# Altium schematic symbol library spacemonochrome-WR_TBL.SchLib: 1696 symbols (part 22 of 28)
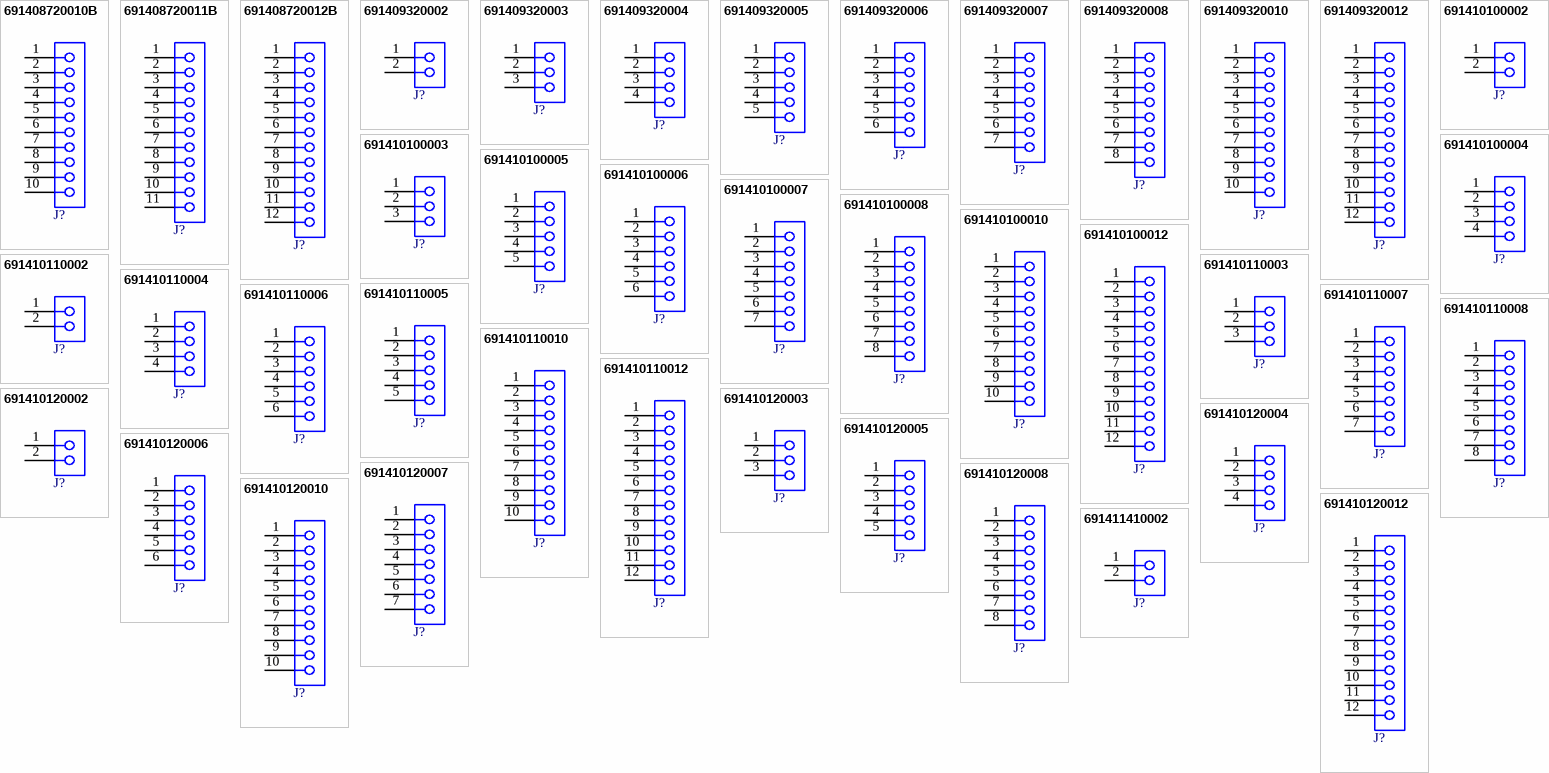
[diagram p63: symbols 691408720010B to 691411410002]

## 691410110002
designator J?  (value not drawn)
WR-TBL Series 4101 Screwless Push In Horizontal cable entry, THT, pitch 3.5mm, 2p; Manufacturer: Wurth Elektronik; Modularity: No; Manufacturer Part Number: 691410110002; Category: Terminal Blocks; Match Code: WR-TBL; ComponentLink1Description: Website Link; ComponentLink1URL: https://www.we-online.com/redexpert/article/691410110002?ad; ComponentLink2Description: Datasheet Link; ComponentLink2URL: https://www.we-online.com/redexpert/spec/691410110002?ad; Mount: Through Hole; Operating Temperature Max: 110°C; Operating Temperature Min: -40°C; Packaging: Box; Application: Screwless Push In; Number of Pins: 2; Number of Rows: 1; Orientation: Horizontal Cable Entry; Pitch: 3.5mm
footprint 691410110002
pins: 1, 2

## 691410110003
designator J?  (value not drawn)
WR-TBL Series 4101 Screwless Push In Horizontal cable entry, THT, pitch 3.5mm, 3p; Manufacturer: Wurth Elektronik; Modularity: No; Manufacturer Part Number: 691410110003; Category: Terminal Blocks; Match Code: WR-TBL; ComponentLink1Description: Website Link; ComponentLink1URL: https://www.we-online.com/redexpert/article/691410110003?ad; ComponentLink2Description: Datasheet Link; ComponentLink2URL: https://www.we-online.com/redexpert/spec/691410110003?ad; Mount: Through Hole; Operating Temperature Max: 110°C; Operating Temperature Min: -40°C; Packaging: Box; Application: Screwless Push In; Number of Pins: 3; Number of Rows: 1; Orientation: Horizontal Cable Entry; Pitch: 3.5mm
footprint 691410110003
pins: 1, 2, 3

## 691410110004
designator J?  (value not drawn)
WR-TBL Series 4101 Screwless Push In Horizontal cable entry, THT, pitch 3.5mm, 4p; Manufacturer: Wurth Elektronik; Modularity: No; Manufacturer Part Number: 691410110004; Category: Terminal Blocks; Match Code: WR-TBL; ComponentLink1Description: Website Link; ComponentLink1URL: https://www.we-online.com/redexpert/article/691410110004?ad; ComponentLink2Description: Datasheet Link; ComponentLink2URL: https://www.we-online.com/redexpert/spec/691410110004?ad; Mount: Through Hole; Operating Temperature Max: 110°C; Operating Temperature Min: -40°C; Packaging: Box; Application: Screwless Push In; Number of Pins: 4; Number of Rows: 1; Orientation: Horizontal Cable Entry; Pitch: 3.5mm
footprint 691410110004
pins: 1, 2, 3, 4

## 691410110005
designator J?  (value not drawn)
WR-TBL Series 4101 Screwless Push In Horizontal cable entry, THT, pitch 3.5mm, 5p; Manufacturer: Wurth Elektronik; Modularity: No; Manufacturer Part Number: 691410110005; Category: Terminal Blocks; Match Code: WR-TBL; ComponentLink1Description: Website Link; ComponentLink1URL: https://www.we-online.com/redexpert/article/691410110005?ad; ComponentLink2Description: Datasheet Link; ComponentLink2URL: https://www.we-online.com/redexpert/spec/691410110005?ad; Mount: Through Hole; Operating Temperature Max: 110°C; Operating Temperature Min: -40°C; Packaging: Box; Application: Screwless Push In; Number of Pins: 5; Number of Rows: 1; Orientation: Horizontal Cable Entry; Pitch: 3.5mm
footprint 691410110005
pins: 1, 2, 3, 4, 5

## 691410110006
designator J?  (value not drawn)
WR-TBL Series 4101 Screwless Push In Horizontal cable entry, THT, pitch 3.5mm, 6p; Manufacturer: Wurth Elektronik; Modularity: No; Manufacturer Part Number: 691410110006; Category: Terminal Blocks; Match Code: WR-TBL; ComponentLink1Description: Website Link; ComponentLink1URL: https://www.we-online.com/redexpert/article/691410110006?ad; ComponentLink2Description: Datasheet Link; ComponentLink2URL: https://www.we-online.com/redexpert/spec/691410110006?ad; Mount: Through Hole; Operating Temperature Max: 110°C; Operating Temperature Min: -40°C; Packaging: Box; Application: Screwless Push In; Number of Pins: 6; Number of Rows: 1; Orientation: Horizontal Cable Entry; Pitch: 3.5mm
footprint 691410110006
pins: 1, 2, 3, 4, 5, 6

## 691410110007
designator J?  (value not drawn)
WR-TBL Series 4101 Screwless Push In Horizontal cable entry, THT, pitch 3.5mm, 7p; Manufacturer: Wurth Elektronik; Modularity: No; Manufacturer Part Number: 691410110007; Category: Terminal Blocks; Match Code: WR-TBL; ComponentLink1Description: Website Link; ComponentLink1URL: https://www.we-online.com/redexpert/article/691410110007?ad; ComponentLink2Description: Datasheet Link; ComponentLink2URL: https://www.we-online.com/redexpert/spec/691410110007?ad; Mount: Through Hole; Operating Temperature Max: 110°C; Operating Temperature Min: -40°C; Packaging: Box; Application: Screwless Push In; Number of Pins: 7; Number of Rows: 1; Orientation: Horizontal Cable Entry; Pitch: 3.5mm
footprint 691410110007
pins: 1, 2, 3, 4, 5, 6, 7

## 691410110008
designator J?  (value not drawn)
WR-TBL Series 4101 Screwless Push In Horizontal cable entry, THT, pitch 3.5mm, 8p; Manufacturer: Wurth Elektronik; Modularity: No; Manufacturer Part Number: 691410110008; Category: Terminal Blocks; Match Code: WR-TBL; ComponentLink1Description: Website Link; ComponentLink1URL: https://www.we-online.com/redexpert/article/691410110008?ad; ComponentLink2Description: Datasheet Link; ComponentLink2URL: https://www.we-online.com/redexpert/spec/691410110008?ad; Mount: Through Hole; Operating Temperature Max: 110°C; Operating Temperature Min: -40°C; Packaging: Box; Application: Screwless Push In; Number of Pins: 8; Number of Rows: 1; Orientation: Horizontal Cable Entry; Pitch: 3.5mm
footprint 691410110008
pins: 1, 2, 3, 4, 5, 6, 7, 8

## 691410110010
designator J?  (value not drawn)
WR-TBL Series 4101 Screwless Push In Horizontal cable entry, THT, pitch 3.5mm, 10p; Manufacturer: Wurth Elektronik; Modularity: No; Manufacturer Part Number: 691410110010; Category: Terminal Blocks; Match Code: WR-TBL; ComponentLink1Description: Website Link; ComponentLink1URL: https://www.we-online.com/redexpert/article/691410110010?ad; ComponentLink2Description: Datasheet Link; ComponentLink2URL: https://www.we-online.com/redexpert/spec/691410110010?ad; Mount: Through Hole; Operating Temperature Max: 110°C; Operating Temperature Min: -40°C; Packaging: Box; Application: Screwless Push In; Number of Pins: 10; Number of Rows: 1; Orientation: Horizontal Cable Entry; Pitch: 3.5mm
footprint 691410110010
pins: 1, 2, 3, 4, 5, 6, 7, 8, 9, 10

## 691410110012
designator J?  (value not drawn)
WR-TBL Series 4101 Screwless Push In Horizontal cable entry, THT, pitch 3.5mm, 12p; Manufacturer: Wurth Elektronik; Modularity: No; Manufacturer Part Number: 691410110012; Category: Terminal Blocks; Match Code: WR-TBL; ComponentLink1Description: Website Link; ComponentLink1URL: https://www.we-online.com/redexpert/article/691410110012?ad; ComponentLink2Description: Datasheet Link; ComponentLink2URL: https://www.we-online.com/redexpert/spec/691410110012?ad; Mount: Through Hole; Operating Temperature Max: 110°C; Operating Temperature Min: -40°C; Packaging: Box; Application: Screwless Push In; Number of Pins: 12; Number of Rows: 1; Orientation: Horizontal Cable Entry; Pitch: 3.5mm
footprint 691410110012
pins: 1, 2, 3, 4, 5, 6, 7, 8, 9, 10, 11, 12

## 691410120002
designator J?  (value not drawn)
WR-TBL Series 4101 Screwless Push In 45° cable entry, THT, pitch 3.5mm, 2p; Manufacturer: Wurth Elektronik; Modularity: No; Manufacturer Part Number: 691410120002; Category: Terminal Blocks; Match Code: WR-TBL; ComponentLink1Description: Website Link; ComponentLink1URL: https://www.we-online.com/redexpert/article/691410120002?ad; ComponentLink2Description: Datasheet Link; ComponentLink2URL: https://www.we-online.com/redexpert/spec/691410120002?ad; Mount: Through Hole; Operating Temperature Max: 110°C; Operating Temperature Min: -40°C; Packaging: Box; Application: Screwless Push In; Number of Pins: 2; Number of Rows: 1; Orientation: 45° Cable Entry; Pitch: 3.5mm
footprint 691410120002
pins: 1, 2

## 691410120003
designator J?  (value not drawn)
WR-TBL Series 4101 Screwless Push In 45° cable entry, THT, pitch 3.5mm, 3p; Manufacturer: Wurth Elektronik; Modularity: No; Manufacturer Part Number: 691410120003; Category: Terminal Blocks; Match Code: WR-TBL; ComponentLink1Description: Website Link; ComponentLink1URL: https://www.we-online.com/redexpert/article/691410120003?ad; ComponentLink2Description: Datasheet Link; ComponentLink2URL: https://www.we-online.com/redexpert/spec/691410120003?ad; Mount: Through Hole; Operating Temperature Max: 110°C; Operating Temperature Min: -40°C; Packaging: Box; Application: Screwless Push In; Number of Pins: 3; Number of Rows: 1; Orientation: 45° Cable Entry; Pitch: 3.5mm
footprint 691410120003
pins: 1, 2, 3

## 691410120004
designator J?  (value not drawn)
WR-TBL Series 4101 Screwless Push In 45° cable entry, THT, pitch 3.5mm, 4p; Manufacturer: Wurth Elektronik; Modularity: No; Manufacturer Part Number: 691410120004; Category: Terminal Blocks; Match Code: WR-TBL; ComponentLink1Description: Website Link; ComponentLink1URL: https://www.we-online.com/redexpert/article/691410120004?ad; ComponentLink2Description: Datasheet Link; ComponentLink2URL: https://www.we-online.com/redexpert/spec/691410120004?ad; Mount: Through Hole; Operating Temperature Max: 110°C; Operating Temperature Min: -40°C; Packaging: Box; Application: Screwless Push In; Number of Pins: 4; Number of Rows: 1; Orientation: 45° Cable Entry; Pitch: 3.5mm
footprint 691410120004
pins: 1, 2, 3, 4

## 691410120005
designator J?  (value not drawn)
WR-TBL Series 4101 Screwless Push In 45° cable entry, THT, pitch 3.5mm, 5p; Manufacturer: Wurth Elektronik; Modularity: No; Manufacturer Part Number: 691410120005; Category: Terminal Blocks; Match Code: WR-TBL; ComponentLink1Description: Website Link; ComponentLink1URL: https://www.we-online.com/redexpert/article/691410120005?ad; ComponentLink2Description: Datasheet Link; ComponentLink2URL: https://www.we-online.com/redexpert/spec/691410120005?ad; Mount: Through Hole; Operating Temperature Max: 110°C; Operating Temperature Min: -40°C; Packaging: Box; Application: Screwless Push In; Number of Pins: 5; Number of Rows: 1; Orientation: 45° Cable Entry; Pitch: 3.5mm
footprint 691410120005
pins: 1, 2, 3, 4, 5

## 691410120006
designator J?  (value not drawn)
WR-TBL Series 4101 Screwless Push In 45° cable entry, THT, pitch 3.5mm, 6p; Manufacturer: Wurth Elektronik; Modularity: No; Manufacturer Part Number: 691410120006; Category: Terminal Blocks; Match Code: WR-TBL; ComponentLink1Description: Website Link; ComponentLink1URL: https://www.we-online.com/redexpert/article/691410120006?ad; ComponentLink2Description: Datasheet Link; ComponentLink2URL: https://www.we-online.com/redexpert/spec/691410120006?ad; Mount: Through Hole; Operating Temperature Max: 110°C; Operating Temperature Min: -40°C; Packaging: Box; Application: Screwless Push In; Number of Pins: 6; Number of Rows: 1; Orientation: 45° Cable Entry; Pitch: 3.5mm
footprint 691410120006
pins: 1, 2, 3, 4, 5, 6

## 691410120007
designator J?  (value not drawn)
WR-TBL Series 4101 Screwless Push In 45° cable entry, THT, pitch 3.5mm, 7p; Manufacturer: Wurth Elektronik; Modularity: No; Manufacturer Part Number: 691410120007; Category: Terminal Blocks; Match Code: WR-TBL; ComponentLink1Description: Website Link; ComponentLink1URL: https://www.we-online.com/redexpert/article/691410120007?ad; ComponentLink2Description: Datasheet Link; ComponentLink2URL: https://www.we-online.com/redexpert/spec/691410120007?ad; Mount: Through Hole; Operating Temperature Max: 110°C; Operating Temperature Min: -40°C; Packaging: Box; Application: Screwless Push In; Number of Pins: 7; Number of Rows: 1; Orientation: 45° Cable Entry; Pitch: 3.5mm
footprint 691410120007
pins: 1, 2, 3, 4, 5, 6, 7

## 691410120008
designator J?  (value not drawn)
WR-TBL Series 4101 Screwless Push In 45° cable entry, THT, pitch 3.5mm, 8p; Manufacturer: Wurth Elektronik; Modularity: No; Manufacturer Part Number: 691410120008; Category: Terminal Blocks; Match Code: WR-TBL; ComponentLink1Description: Website Link; ComponentLink1URL: https://www.we-online.com/redexpert/article/691410120008?ad; ComponentLink2Description: Datasheet Link; ComponentLink2URL: https://www.we-online.com/redexpert/spec/691410120008?ad; Mount: Through Hole; Operating Temperature Max: 110°C; Operating Temperature Min: -40°C; Packaging: Box; Application: Screwless Push In; Number of Pins: 8; Number of Rows: 1; Orientation: 45° Cable Entry; Pitch: 3.5mm
footprint 691410120008
pins: 1, 2, 3, 4, 5, 6, 7, 8

## 691410120010
designator J?  (value not drawn)
WR-TBL Series 4101 Screwless Push In 45° cable entry, THT, pitch 3.5mm, 10p; Manufacturer: Wurth Elektronik; Modularity: No; Manufacturer Part Number: 691410120010; Category: Terminal Blocks; Match Code: WR-TBL; ComponentLink1Description: Website Link; ComponentLink1URL: https://www.we-online.com/redexpert/article/691410120010?ad; ComponentLink2Description: Datasheet Link; ComponentLink2URL: https://www.we-online.com/redexpert/spec/691410120010?ad; Mount: Through Hole; Operating Temperature Max: 110°C; Operating Temperature Min: -40°C; Packaging: Box; Application: Screwless Push In; Number of Pins: 10; Number of Rows: 1; Orientation: 45° Cable Entry; Pitch: 3.5mm
footprint 691410120010
pins: 1, 2, 3, 4, 5, 6, 7, 8, 9, 10

## 691410120012
designator J?  (value not drawn)
WR-TBL Series 4101 Screwless Push In 45° cable entry, THT, pitch 3.5mm, 12p; Manufacturer: Wurth Elektronik; Modularity: No; Manufacturer Part Number: 691410120012; Category: Terminal Blocks; Match Code: WR-TBL; ComponentLink1Description: Website Link; ComponentLink1URL: https://www.we-online.com/redexpert/article/691410120012?ad; ComponentLink2Description: Datasheet Link; ComponentLink2URL: https://www.we-online.com/redexpert/spec/691410120012?ad; Mount: Through Hole; Operating Temperature Max: 110°C; Operating Temperature Min: -40°C; Packaging: Box; Application: Screwless Push In; Number of Pins: 12; Number of Rows: 1; Orientation: 45° Cable Entry; Pitch: 3.5mm
footprint 691410120012
pins: 1, 2, 3, 4, 5, 6, 7, 8, 9, 10, 11, 12

## 691411410002
designator J?  (value not drawn)
WR-TBL Series 4114 Horizontal Cable Entry, THT, pitch 7.62mm, 2p; Manufacturer: Wurth Elektronik; Modularity: No; Rated Current: 10A; Working Voltage: 300V; ComponentLink1Description: Website Link; ComponentLink1URL: https://www.we-online.com/redexpert/article/691411410002?ad; ComponentLink2Description: Datasheet Link; ComponentLink2URL: https://www.we-online.com/redexpert/spec/691411410002?ad; Manufacturer Part Number: 691411410002; Category: Terminal Blocks; Match Code: WR-TBL; Mount: Through Hole; Operating Temperature Max: 120°C; Operating Temperature Min: -30°C; Packaging: Box; Application: Screwless; Number of Pins: 2; Number of Rows: 1; Orientation: Horizontal; Pitch: 7.62mm
footprint 691411410002
pins: 1, 2

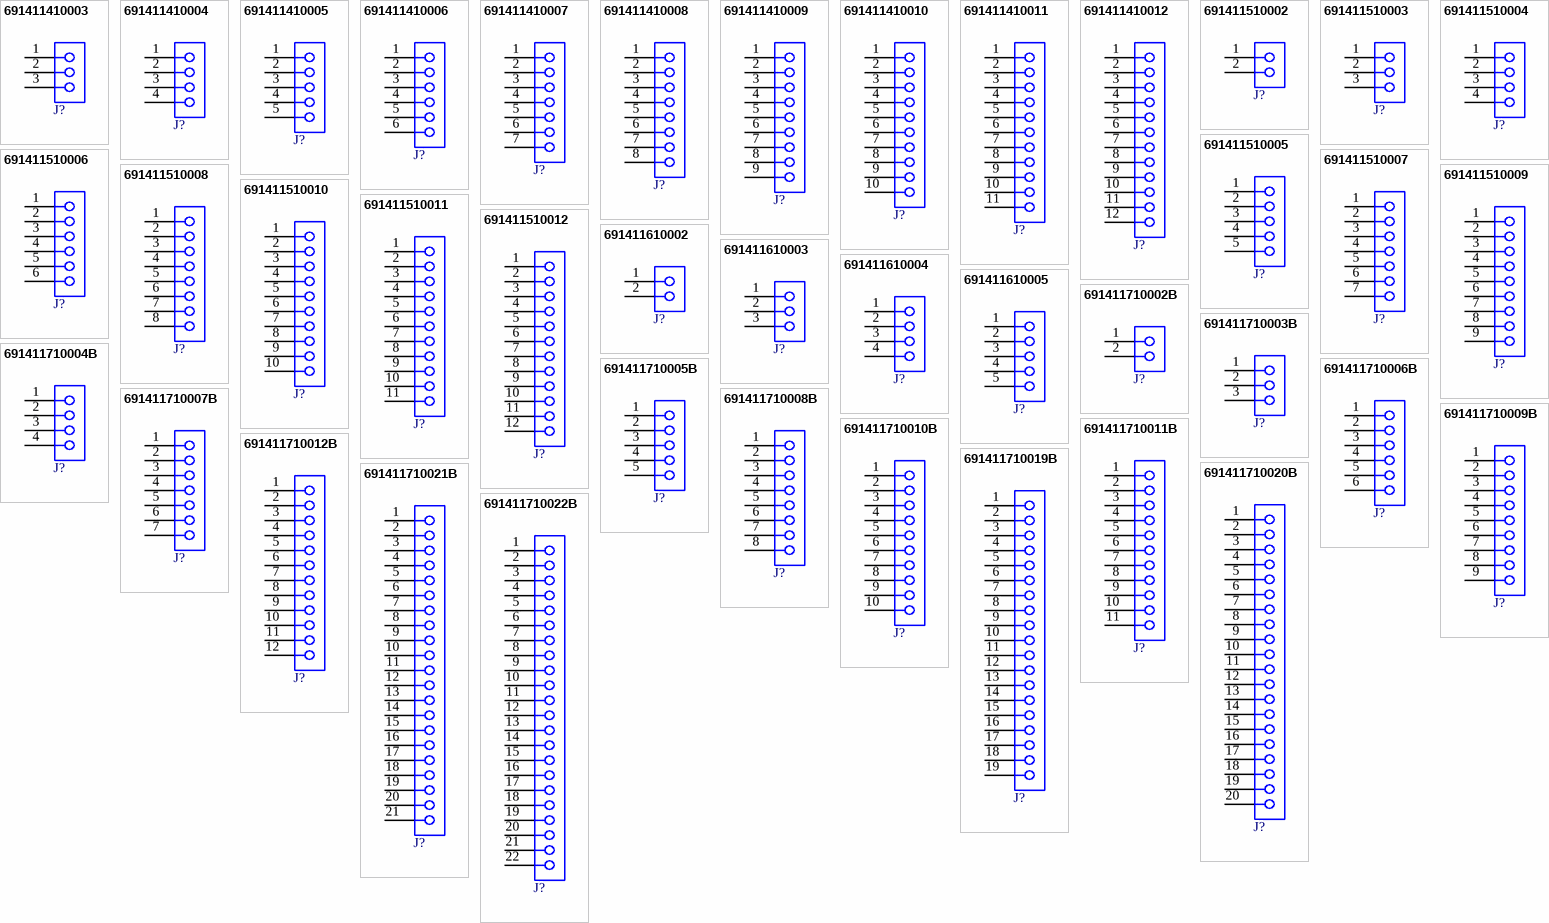
[diagram p33: symbols 691411410003 to 691411710022B]

## 691411410003
designator J?  (value not drawn)
WR-TBL Series 4114 Horizontal Cable Entry, THT, pitch 7.62mm, 3p; Manufacturer: Wurth Elektronik; Modularity: No; Rated Current: 10A; Working Voltage: 300V; ComponentLink1Description: Website Link; ComponentLink1URL: https://www.we-online.com/redexpert/article/691411410003?ad; ComponentLink2Description: Datasheet Link; ComponentLink2URL: https://www.we-online.com/redexpert/spec/691411410003?ad; Manufacturer Part Number: 691411410003; Category: Terminal Blocks; Match Code: WR-TBL; Mount: Through Hole; Operating Temperature Max: 120°C; Operating Temperature Min: -30°C; Packaging: Box; Application: Screwless; Number of Pins: 3; Number of Rows: 1; Orientation: Horizontal; Pitch: 7.62mm
footprint 691411410003
pins: 1, 2, 3

## 691411410004
designator J?  (value not drawn)
WR-TBL Series 4114 Horizontal Cable Entry, THT, pitch 7.62mm, 4p; Manufacturer: Wurth Elektronik; Modularity: No; Rated Current: 10A; Working Voltage: 300V; ComponentLink1Description: Website Link; ComponentLink1URL: https://www.we-online.com/redexpert/article/691411410004?ad; ComponentLink2Description: Datasheet Link; ComponentLink2URL: https://www.we-online.com/redexpert/spec/691411410004?ad; Manufacturer Part Number: 691411410004; Category: Terminal Blocks; Match Code: WR-TBL; Mount: Through Hole; Operating Temperature Max: 120°C; Operating Temperature Min: -30°C; Packaging: Box; Application: Screwless; Number of Pins: 4; Number of Rows: 1; Orientation: Horizontal; Pitch: 7.62mm
footprint 691411410004
pins: 1, 2, 3, 4

## 691411410005
designator J?  (value not drawn)
WR-TBL Series 4114 Horizontal Cable Entry, THT, pitch 7.62mm, 5p; Manufacturer: Wurth Elektronik; Modularity: No; Rated Current: 10A; Working Voltage: 300V; ComponentLink1Description: Website Link; ComponentLink1URL: https://www.we-online.com/redexpert/article/691411410005?ad; ComponentLink2Description: Datasheet Link; ComponentLink2URL: https://www.we-online.com/redexpert/spec/691411410005?ad; Manufacturer Part Number: 691411410005; Category: Terminal Blocks; Match Code: WR-TBL; Mount: Through Hole; Operating Temperature Max: 120°C; Operating Temperature Min: -30°C; Packaging: Box; Application: Screwless; Number of Pins: 5; Number of Rows: 1; Orientation: Horizontal; Pitch: 7.62mm
footprint 691411410005
pins: 1, 2, 3, 4, 5

## 691411410006
designator J?  (value not drawn)
WR-TBL Series 4114 Horizontal Cable Entry, THT, pitch 7.62mm, 6p; Manufacturer: Wurth Elektronik; Modularity: No; Rated Current: 10A; Working Voltage: 300V; ComponentLink1Description: Website Link; ComponentLink1URL: https://www.we-online.com/redexpert/article/691411410006?ad; ComponentLink2Description: Datasheet Link; ComponentLink2URL: https://www.we-online.com/redexpert/spec/691411410006?ad; Manufacturer Part Number: 691411410006; Category: Terminal Blocks; Match Code: WR-TBL; Mount: Through Hole; Operating Temperature Max: 120°C; Operating Temperature Min: -30°C; Packaging: Box; Application: Screwless; Number of Pins: 6; Number of Rows: 1; Orientation: Horizontal; Pitch: 7.62mm
footprint 691411410006
pins: 1, 2, 3, 4, 5, 6

## 691411410007
designator J?  (value not drawn)
WR-TBL Series 4114 Horizontal Cable Entry, THT, pitch 7.62mm, 7p; Manufacturer: Wurth Elektronik; Modularity: No; Rated Current: 10A; Working Voltage: 300V; ComponentLink1Description: Website Link; ComponentLink1URL: https://www.we-online.com/redexpert/article/691411410007?ad; ComponentLink2Description: Datasheet Link; ComponentLink2URL: https://www.we-online.com/redexpert/spec/691411410007?ad; Manufacturer Part Number: 691411410007; Category: Terminal Blocks; Match Code: WR-TBL; Mount: Through Hole; Operating Temperature Max: 120°C; Operating Temperature Min: -30°C; Packaging: Box; Application: Screwless; Number of Pins: 7; Number of Rows: 1; Orientation: Horizontal; Pitch: 7.62mm
footprint 691411410007
pins: 1, 2, 3, 4, 5, 6, 7

## 691411410008
designator J?  (value not drawn)
WR-TBL Series 4114 Horizontal Cable Entry, THT, pitch 7.62mm, 8p; Manufacturer: Wurth Elektronik; Modularity: No; Rated Current: 10A; Working Voltage: 300V; ComponentLink1Description: Website Link; ComponentLink1URL: https://www.we-online.com/redexpert/article/691411410008?ad; ComponentLink2Description: Datasheet Link; ComponentLink2URL: https://www.we-online.com/redexpert/spec/691411410008?ad; Manufacturer Part Number: 691411410008; Category: Terminal Blocks; Match Code: WR-TBL; Mount: Through Hole; Operating Temperature Max: 120°C; Operating Temperature Min: -30°C; Packaging: Box; Application: Screwless; Number of Pins: 8; Number of Rows: 1; Orientation: Horizontal; Pitch: 7.62mm
footprint 691411410008
pins: 1, 2, 3, 4, 5, 6, 7, 8

## 691411410009
designator J?  (value not drawn)
WR-TBL Series 4114 Horizontal Cable Entry, THT, pitch 7.62mm, 9p; Manufacturer: Wurth Elektronik; Modularity: No; Rated Current: 10A; Working Voltage: 300V; ComponentLink1Description: Website Link; ComponentLink1URL: https://www.we-online.com/redexpert/article/691411410009?ad; ComponentLink2Description: Datasheet Link; ComponentLink2URL: https://www.we-online.com/redexpert/spec/691411410009?ad; Manufacturer Part Number: 691411410009; Category: Terminal Blocks; Match Code: WR-TBL; Mount: Through Hole; Operating Temperature Max: 120°C; Operating Temperature Min: -30°C; Packaging: Box; Application: Screwless; Number of Pins: 9; Number of Rows: 1; Orientation: Horizontal; Pitch: 7.62mm
footprint 691411410009
pins: 1, 2, 3, 4, 5, 6, 7, 8, 9

## 691411410010
designator J?  (value not drawn)
WR-TBL Series 4114 Horizontal Cable Entry, THT, pitch 7.62mm, 10p; Manufacturer: Wurth Elektronik; Modularity: No; Rated Current: 10A; Working Voltage: 300V; ComponentLink1Description: Website Link; ComponentLink1URL: https://www.we-online.com/redexpert/article/691411410010?ad; ComponentLink2Description: Datasheet Link; ComponentLink2URL: https://www.we-online.com/redexpert/spec/691411410010?ad; Manufacturer Part Number: 691411410010; Category: Terminal Blocks; Match Code: WR-TBL; Mount: Through Hole; Operating Temperature Max: 120°C; Operating Temperature Min: -30°C; Packaging: Box; Application: Screwless; Number of Pins: 10; Number of Rows: 1; Orientation: Horizontal; Pitch: 7.62mm
footprint 691411410010
pins: 1, 2, 3, 4, 5, 6, 7, 8, 9, 10

## 691411410011
designator J?  (value not drawn)
WR-TBL Series 4114 Horizontal Cable Entry, THT, pitch 7.62mm, 11p; Manufacturer: Wurth Elektronik; Modularity: No; Rated Current: 10A; Working Voltage: 300V; ComponentLink1Description: Website Link; ComponentLink1URL: https://www.we-online.com/redexpert/article/691411410011?ad; ComponentLink2Description: Datasheet Link; ComponentLink2URL: https://www.we-online.com/redexpert/spec/691411410011?ad; Manufacturer Part Number: 691411410011; Category: Terminal Blocks; Match Code: WR-TBL; Mount: Through Hole; Operating Temperature Max: 120°C; Operating Temperature Min: -30°C; Packaging: Box; Application: Screwless; Number of Pins: 11; Number of Rows: 1; Orientation: Horizontal; Pitch: 7.62mm
footprint 691411410011
pins: 1, 2, 3, 4, 5, 6, 7, 8, 9, 10, 11

## 691411410012
designator J?  (value not drawn)
WR-TBL Series 4114 Horizontal Cable Entry, THT, pitch 7.62mm, 12p; Manufacturer: Wurth Elektronik; Modularity: No; Rated Current: 10A; Working Voltage: 300V; ComponentLink1Description: Website Link; ComponentLink1URL: https://www.we-online.com/redexpert/article/691411410012?ad; ComponentLink2Description: Datasheet Link; ComponentLink2URL: https://www.we-online.com/redexpert/spec/691411410012?ad; Manufacturer Part Number: 691411410012; Category: Terminal Blocks; Match Code: WR-TBL; Mount: Through Hole; Operating Temperature Max: 120°C; Operating Temperature Min: -30°C; Packaging: Box; Application: Screwless; Number of Pins: 12; Number of Rows: 1; Orientation: Horizontal; Pitch: 7.62mm
footprint 691411410012
pins: 1, 2, 3, 4, 5, 6, 7, 8, 9, 10, 11, 12

## 691411510002
designator J?  (value not drawn)
WR-TBL Series 4115 Horizontal Entry, THT, pitch 5.08mm, 2p; Manufacturer: Wurth Elektronik; Modularity: No; Rated Current: 10A; Working Voltage: 300V; ComponentLink1Description: Website Link; ComponentLink1URL: https://www.we-online.com/redexpert/article/691411510002?ad; ComponentLink2Description: Datasheet Link; ComponentLink2URL: https://www.we-online.com/redexpert/spec/691411510002?ad; Manufacturer Part Number: 691411510002; Category: Terminal Blocks; Match Code: WR-TBL; Mount: Through Hole; Operating Temperature Max: 120°C; Operating Temperature Min: -30°C; Packaging: Box; Application: Screwless; Number of Pins: 2; Number of Rows: 1; Orientation: Horizontal; Pitch: 5.08mm
footprint 691411510002
pins: 1, 2

## 691411510003
designator J?  (value not drawn)
WR-TBL Series 4115 Horizontal Entry, THT, pitch 5.08mm, 3p; Manufacturer: Wurth Elektronik; Modularity: No; Rated Current: 10A; Working Voltage: 300V; ComponentLink1Description: Website Link; ComponentLink1URL: https://www.we-online.com/redexpert/article/691411510003?ad; ComponentLink2Description: Datasheet Link; ComponentLink2URL: https://www.we-online.com/redexpert/spec/691411510003?ad; Manufacturer Part Number: 691411510003; Category: Terminal Blocks; Match Code: WR-TBL; Mount: Through Hole; Operating Temperature Max: 120°C; Operating Temperature Min: -30°C; Packaging: Box; Application: Screwless; Number of Pins: 3; Number of Rows: 1; Orientation: Horizontal; Pitch: 5.08mm
footprint 691411510003
pins: 1, 2, 3

## 691411510004
designator J?  (value not drawn)
WR-TBL Series 4115 Horizontal Entry, THT, pitch 5.08mm, 4p; Manufacturer: Wurth Elektronik; Modularity: No; Rated Current: 10A; Working Voltage: 300V; ComponentLink1Description: Website Link; ComponentLink1URL: https://www.we-online.com/redexpert/article/691411510004?ad; ComponentLink2Description: Datasheet Link; ComponentLink2URL: https://www.we-online.com/redexpert/spec/691411510004?ad; Manufacturer Part Number: 691411510004; Category: Terminal Blocks; Match Code: WR-TBL; Mount: Through Hole; Operating Temperature Max: 120°C; Operating Temperature Min: -30°C; Packaging: Box; Application: Screwless; Number of Pins: 4; Number of Rows: 1; Orientation: Horizontal; Pitch: 5.08mm
footprint 691411510004
pins: 1, 2, 3, 4

## 691411510005
designator J?  (value not drawn)
WR-TBL Series 4115 Horizontal Entry, THT, pitch 5.08mm, 5p; Manufacturer: Wurth Elektronik; Modularity: No; Rated Current: 10A; Working Voltage: 300V; ComponentLink1Description: Website Link; ComponentLink1URL: https://www.we-online.com/redexpert/article/691411510005?ad; ComponentLink2Description: Datasheet Link; ComponentLink2URL: https://www.we-online.com/redexpert/spec/691411510005?ad; Manufacturer Part Number: 691411510005; Category: Terminal Blocks; Match Code: WR-TBL; Mount: Through Hole; Operating Temperature Max: 120°C; Operating Temperature Min: -30°C; Packaging: Box; Application: Screwless; Number of Pins: 5; Number of Rows: 1; Orientation: Horizontal; Pitch: 5.08mm
footprint 691411510005
pins: 1, 2, 3, 4, 5

## 691411510006
designator J?  (value not drawn)
WR-TBL Series 4115 Horizontal Entry, THT, pitch 5.08mm, 6p; Manufacturer: Wurth Elektronik; Modularity: No; Rated Current: 10A; Working Voltage: 300V; ComponentLink1Description: Website Link; ComponentLink1URL: https://www.we-online.com/redexpert/article/691411510006?ad; ComponentLink2Description: Datasheet Link; ComponentLink2URL: https://www.we-online.com/redexpert/spec/691411510006?ad; Manufacturer Part Number: 691411510006; Category: Terminal Blocks; Match Code: WR-TBL; Mount: Through Hole; Operating Temperature Max: 120°C; Operating Temperature Min: -30°C; Packaging: Box; Application: Screwless; Number of Pins: 6; Number of Rows: 1; Orientation: Horizontal; Pitch: 5.08mm
footprint 691411510006
pins: 1, 2, 3, 4, 5, 6

## 691411510007
designator J?  (value not drawn)
WR-TBL Series 4115 Horizontal Entry, THT, pitch 5.08mm, 7p; Manufacturer: Wurth Elektronik; Modularity: No; Rated Current: 10A; Working Voltage: 300V; ComponentLink1Description: Website Link; ComponentLink1URL: https://www.we-online.com/redexpert/article/691411510007?ad; ComponentLink2Description: Datasheet Link; ComponentLink2URL: https://www.we-online.com/redexpert/spec/691411510007?ad; Manufacturer Part Number: 691411510007; Category: Terminal Blocks; Match Code: WR-TBL; Mount: Through Hole; Operating Temperature Max: 120°C; Operating Temperature Min: -30°C; Packaging: Box; Application: Screwless; Number of Pins: 7; Number of Rows: 1; Orientation: Horizontal; Pitch: 5.08mm
footprint 691411510007
pins: 1, 2, 3, 4, 5, 6, 7

## 691411510008
designator J?  (value not drawn)
WR-TBL Series 4115 Horizontal Entry, THT, pitch 5.08mm, 8p; Manufacturer: Wurth Elektronik; Modularity: No; Rated Current: 10A; Working Voltage: 300V; ComponentLink1Description: Website Link; ComponentLink1URL: https://www.we-online.com/redexpert/article/691411510008?ad; ComponentLink2Description: Datasheet Link; ComponentLink2URL: https://www.we-online.com/redexpert/spec/691411510008?ad; Manufacturer Part Number: 691411510008; Category: Terminal Blocks; Match Code: WR-TBL; Mount: Through Hole; Operating Temperature Max: 120°C; Operating Temperature Min: -30°C; Packaging: Box; Application: Screwless; Number of Pins: 8; Number of Rows: 1; Orientation: Horizontal; Pitch: 5.08mm
footprint 691411510008
pins: 1, 2, 3, 4, 5, 6, 7, 8

## 691411510009
designator J?  (value not drawn)
WR-TBL Series 4115 Horizontal Entry, THT, pitch 5.08mm, 9p; Manufacturer: Wurth Elektronik; Modularity: No; Rated Current: 10A; Working Voltage: 300V; ComponentLink1Description: Website Link; ComponentLink1URL: https://www.we-online.com/redexpert/article/691411510009?ad; ComponentLink2Description: Datasheet Link; ComponentLink2URL: https://www.we-online.com/redexpert/spec/691411510009?ad; Manufacturer Part Number: 691411510009; Category: Terminal Blocks; Match Code: WR-TBL; Mount: Through Hole; Operating Temperature Max: 120°C; Operating Temperature Min: -30°C; Packaging: Box; Application: Screwless; Number of Pins: 9; Number of Rows: 1; Orientation: Horizontal; Pitch: 5.08mm
footprint 691411510009
pins: 1, 2, 3, 4, 5, 6, 7, 8, 9

## 691411510010
designator J?  (value not drawn)
WR-TBL Series 4115 Horizontal Entry, THT, pitch 5.08mm, 10p; Manufacturer: Wurth Elektronik; Modularity: No; Rated Current: 10A; Working Voltage: 300V; ComponentLink1Description: Website Link; ComponentLink1URL: https://www.we-online.com/redexpert/article/691411510010?ad; ComponentLink2Description: Datasheet Link; ComponentLink2URL: https://www.we-online.com/redexpert/spec/691411510010?ad; Manufacturer Part Number: 691411510010; Category: Terminal Blocks; Match Code: WR-TBL; Mount: Through Hole; Operating Temperature Max: 120°C; Operating Temperature Min: -30°C; Packaging: Box; Application: Screwless; Number of Pins: 10; Number of Rows: 1; Orientation: Horizontal; Pitch: 5.08mm
footprint 691411510010
pins: 1, 2, 3, 4, 5, 6, 7, 8, 9, 10

## 691411510011
designator J?  (value not drawn)
WR-TBL Series 4115 Horizontal Entry, THT, pitch 5.08mm, 11p; Manufacturer: Wurth Elektronik; Modularity: No; Rated Current: 10A; Working Voltage: 300V; ComponentLink1Description: Website Link; ComponentLink1URL: https://www.we-online.com/redexpert/article/691411510011?ad; ComponentLink2Description: Datasheet Link; ComponentLink2URL: https://www.we-online.com/redexpert/spec/691411510011?ad; Manufacturer Part Number: 691411510011; Category: Terminal Blocks; Match Code: WR-TBL; Mount: Through Hole; Operating Temperature Max: 120°C; Operating Temperature Min: -30°C; Packaging: Box; Application: Screwless; Number of Pins: 11; Number of Rows: 1; Orientation: Horizontal; Pitch: 5.08mm
footprint 691411510011
pins: 1, 2, 3, 4, 5, 6, 7, 8, 9, 10, 11

## 691411510012
designator J?  (value not drawn)
WR-TBL Series 4115 Horizontal Entry, THT, pitch 5.08mm, 12p; Manufacturer: Wurth Elektronik; Modularity: No; Rated Current: 10A; Working Voltage: 300V; ComponentLink1Description: Website Link; ComponentLink1URL: https://www.we-online.com/redexpert/article/691411510012?ad; ComponentLink2Description: Datasheet Link; ComponentLink2URL: https://www.we-online.com/redexpert/spec/691411510012?ad; Manufacturer Part Number: 691411510012; Category: Terminal Blocks; Match Code: WR-TBL; Mount: Through Hole; Operating Temperature Max: 120°C; Operating Temperature Min: -30°C; Packaging: Box; Application: Screwless; Number of Pins: 12; Number of Rows: 1; Orientation: Horizontal; Pitch: 5.08mm
footprint 691411510012
pins: 1, 2, 3, 4, 5, 6, 7, 8, 9, 10, 11, 12

## 691411610002
designator J?  (value not drawn)
WR-TBL Series 4116 Horizontal Entry, THT, pitch 10.16mm, 2p; Manufacturer: Wurth Elektronik; Modularity: No; Rated Current: 10A; Working Voltage: 300V; ComponentLink1Description: Website Link; ComponentLink1URL: https://www.we-online.com/redexpert/article/691411610002?ad; ComponentLink2Description: Datasheet Link; ComponentLink2URL: https://www.we-online.com/redexpert/spec/691411610002?ad; Manufacturer Part Number: 691411610002; Category: Terminal Blocks; Match Code: WR-TBL; Mount: Through Hole; Operating Temperature Max: 120°C; Operating Temperature Min: -30°C; Packaging: Box; Application: Screwless; Number of Pins: 2; Number of Rows: 1; Orientation: Horizontal; Pitch: 10.16mm
footprint 691411610002
pins: 1, 2

## 691411610003
designator J?  (value not drawn)
WR-TBL Series 4116 Horizontal Entry, THT, pitch 10.16mm, 3p; Manufacturer: Wurth Elektronik; Modularity: No; Rated Current: 10A; Working Voltage: 300V; ComponentLink1Description: Website Link; ComponentLink1URL: https://www.we-online.com/redexpert/article/691411610003?ad; ComponentLink2Description: Datasheet Link; ComponentLink2URL: https://www.we-online.com/redexpert/spec/691411610003?ad; Manufacturer Part Number: 691411610003; Category: Terminal Blocks; Match Code: WR-TBL; Mount: Through Hole; Operating Temperature Max: 120°C; Operating Temperature Min: -30°C; Packaging: Box; Application: Screwless; Number of Pins: 3; Number of Rows: 1; Orientation: Horizontal; Pitch: 10.16mm
footprint 691411610003
pins: 1, 2, 3

## 691411610004
designator J?  (value not drawn)
WR-TBL Series 4116 Horizontal Entry, THT, pitch 10.16mm, 4p; Manufacturer: Wurth Elektronik; Modularity: No; Rated Current: 10A; Working Voltage: 300V; ComponentLink1Description: Website Link; ComponentLink1URL: https://www.we-online.com/redexpert/article/691411610004?ad; ComponentLink2Description: Datasheet Link; ComponentLink2URL: https://www.we-online.com/redexpert/spec/691411610004?ad; Manufacturer Part Number: 691411610004; Category: Terminal Blocks; Match Code: WR-TBL; Mount: Through Hole; Operating Temperature Max: 120°C; Operating Temperature Min: -30°C; Packaging: Box; Application: Screwless; Number of Pins: 4; Number of Rows: 1; Orientation: Horizontal; Pitch: 10.16mm
footprint 691411610004
pins: 1, 2, 3, 4

## 691411610005
designator J?  (value not drawn)
WR-TBL Series 4116 Horizontal Entry, THT, pitch 10.16mm, 5p; Manufacturer: Wurth Elektronik; Modularity: No; Rated Current: 10A; Working Voltage: 300V; ComponentLink1Description: Website Link; ComponentLink1URL: https://www.we-online.com/redexpert/article/691411610005?ad; ComponentLink2Description: Datasheet Link; ComponentLink2URL: https://www.we-online.com/redexpert/spec/691411610005?ad; Manufacturer Part Number: 691411610005; Category: Terminal Blocks; Match Code: WR-TBL; Mount: Through Hole; Operating Temperature Max: 120°C; Operating Temperature Min: -30°C; Packaging: Box; Application: Screwless; Number of Pins: 5; Number of Rows: 1; Orientation: Horizontal; Pitch: 10.16mm
footprint 691411610005
pins: 1, 2, 3, 4, 5

## 691411710002B
designator J?  (value not drawn)
WR-TBL Series 411B Horizontal Entry, THT, pitch 5mm, 2p; Manufacturer: Wurth Elektronik; Modularity: No; Rated Current: 10A; Working Voltage: 300V; ComponentLink1Description: Website Link; ComponentLink1URL: https://www.we-online.com/redexpert/article/691411710002B?ad; ComponentLink2Description: Datasheet Link; ComponentLink2URL: https://www.we-online.com/redexpert/spec/691411710002B?ad; Manufacturer Part Number: 691411710002B; Category: Terminal Blocks; Match Code: WR-TBL; Mount: Through Hole; Operating Temperature Max: 105°C; Operating Temperature Min: -40°C; Packaging: Box; Application: Screwless; Number of Pins: 2; Number of Rows: 1; Orientation: Horizontal; Pitch: 5mm
footprint 691411710002B
pins: 1, 2

## 691411710003B
designator J?  (value not drawn)
WR-TBL Series 411B Horizontal Entry, THT, pitch 5mm, 3p; Manufacturer: Wurth Elektronik; Modularity: No; Rated Current: 10A; Working Voltage: 300V; ComponentLink1Description: Website Link; ComponentLink1URL: https://www.we-online.com/redexpert/article/691411710003B?ad; ComponentLink2Description: Datasheet Link; ComponentLink2URL: https://www.we-online.com/redexpert/spec/691411710003B?ad; Manufacturer Part Number: 691411710003B; Category: Terminal Blocks; Match Code: WR-TBL; Mount: Through Hole; Operating Temperature Max: 105°C; Operating Temperature Min: -40°C; Packaging: Box; Application: Screwless; Number of Pins: 3; Number of Rows: 1; Orientation: Horizontal; Pitch: 5mm
footprint 691411710003B
pins: 1, 2, 3

## 691411710004B
designator J?  (value not drawn)
WR-TBL Series 411B Horizontal Entry, THT, pitch 5mm, 4p; Manufacturer: Wurth Elektronik; Modularity: No; Rated Current: 10A; Working Voltage: 300V; ComponentLink1Description: Website Link; ComponentLink1URL: https://www.we-online.com/redexpert/article/691411710004B?ad; ComponentLink2Description: Datasheet Link; ComponentLink2URL: https://www.we-online.com/redexpert/spec/691411710004B?ad; Manufacturer Part Number: 691411710004B; Category: Terminal Blocks; Match Code: WR-TBL; Mount: Through Hole; Operating Temperature Max: 105°C; Operating Temperature Min: -40°C; Packaging: Box; Application: Screwless; Number of Pins: 4; Number of Rows: 1; Orientation: Horizontal; Pitch: 5mm
footprint 691411710004B
pins: 1, 2, 3, 4

## 691411710005B
designator J?  (value not drawn)
WR-TBL Series 411B Horizontal Entry, THT, pitch 5mm, 5p; Manufacturer: Wurth Elektronik; Modularity: No; Rated Current: 10A; Working Voltage: 300V; ComponentLink1Description: Website Link; ComponentLink1URL: https://www.we-online.com/redexpert/article/691411710005B?ad; ComponentLink2Description: Datasheet Link; ComponentLink2URL: https://www.we-online.com/redexpert/spec/691411710005B?ad; Manufacturer Part Number: 691411710005B; Category: Terminal Blocks; Match Code: WR-TBL; Mount: Through Hole; Operating Temperature Max: 105°C; Operating Temperature Min: -40°C; Packaging: Box; Application: Screwless; Number of Pins: 5; Number of Rows: 1; Orientation: Horizontal; Pitch: 5mm
footprint 691411710005B
pins: 1, 2, 3, 4, 5

## 691411710006B
designator J?  (value not drawn)
WR-TBL Series 411B Horizontal Entry, THT, pitch 5mm, 6p; Manufacturer: Wurth Elektronik; Modularity: No; Rated Current: 10A; Working Voltage: 300V; ComponentLink1Description: Website Link; ComponentLink1URL: https://www.we-online.com/redexpert/article/691411710006B?ad; ComponentLink2Description: Datasheet Link; ComponentLink2URL: https://www.we-online.com/redexpert/spec/691411710006B?ad; Manufacturer Part Number: 691411710006B; Category: Terminal Blocks; Match Code: WR-TBL; Mount: Through Hole; Operating Temperature Max: 105°C; Operating Temperature Min: -40°C; Packaging: Box; Application: Screwless; Number of Pins: 6; Number of Rows: 1; Orientation: Horizontal; Pitch: 5mm
footprint 691411710006B
pins: 1, 2, 3, 4, 5, 6

## 691411710007B
designator J?  (value not drawn)
WR-TBL Series 411B Horizontal Entry, THT, pitch 5mm, 7p; Manufacturer: Wurth Elektronik; Modularity: No; Rated Current: 10A; Working Voltage: 300V; ComponentLink1Description: Website Link; ComponentLink1URL: https://www.we-online.com/redexpert/article/691411710007B?ad; ComponentLink2Description: Datasheet Link; ComponentLink2URL: https://www.we-online.com/redexpert/spec/691411710007B?ad; Manufacturer Part Number: 691411710007B; Category: Terminal Blocks; Match Code: WR-TBL; Mount: Through Hole; Operating Temperature Max: 105°C; Operating Temperature Min: -40°C; Packaging: Box; Application: Screwless; Number of Pins: 7; Number of Rows: 1; Orientation: Horizontal; Pitch: 5mm
footprint 691411710007B
pins: 1, 2, 3, 4, 5, 6, 7

## 691411710008B
designator J?  (value not drawn)
WR-TBL Series 411B Horizontal Entry, THT, pitch 5mm, 8p; Manufacturer: Wurth Elektronik; Modularity: No; Rated Current: 10A; Working Voltage: 300V; ComponentLink1Description: Website Link; ComponentLink1URL: https://www.we-online.com/redexpert/article/691411710008B?ad; ComponentLink2Description: Datasheet Link; ComponentLink2URL: https://www.we-online.com/redexpert/spec/691411710008B?ad; Manufacturer Part Number: 691411710008B; Category: Terminal Blocks; Match Code: WR-TBL; Mount: Through Hole; Operating Temperature Max: 105°C; Operating Temperature Min: -40°C; Packaging: Box; Application: Screwless; Number of Pins: 8; Number of Rows: 1; Orientation: Horizontal; Pitch: 5mm
footprint 691411710008B
pins: 1, 2, 3, 4, 5, 6, 7, 8

## 691411710009B
designator J?  (value not drawn)
WR-TBL Series 411B Horizontal Entry, THT, pitch 5mm, 9p; Manufacturer: Wurth Elektronik; Modularity: No; Rated Current: 10A; Working Voltage: 300V; ComponentLink1Description: Website Link; ComponentLink1URL: https://www.we-online.com/redexpert/article/691411710009B?ad; ComponentLink2Description: Datasheet Link; ComponentLink2URL: https://www.we-online.com/redexpert/spec/691411710009B?ad; Manufacturer Part Number: 691411710009B; Category: Terminal Blocks; Match Code: WR-TBL; Mount: Through Hole; Operating Temperature Max: 105°C; Operating Temperature Min: -40°C; Packaging: Box; Application: Screwless; Number of Pins: 9; Number of Rows: 1; Orientation: Horizontal; Pitch: 5mm
footprint 691411710009B
pins: 1, 2, 3, 4, 5, 6, 7, 8, 9

## 691411710010B
designator J?  (value not drawn)
WR-TBL Series 411B Horizontal Entry, THT, pitch 5mm, 10p; Manufacturer: Wurth Elektronik; Modularity: No; Rated Current: 10A; Working Voltage: 300V; ComponentLink1Description: Website Link; ComponentLink1URL: https://www.we-online.com/redexpert/article/691411710010B?ad; ComponentLink2Description: Datasheet Link; ComponentLink2URL: https://www.we-online.com/redexpert/spec/691411710010B?ad; Manufacturer Part Number: 691411710010B; Category: Terminal Blocks; Match Code: WR-TBL; Mount: Through Hole; Operating Temperature Max: 105°C; Operating Temperature Min: -40°C; Packaging: Box; Application: Screwless; Number of Pins: 10; Number of Rows: 1; Orientation: Horizontal; Pitch: 5mm
footprint 691411710010B
pins: 1, 2, 3, 4, 5, 6, 7, 8, 9, 10

## 691411710011B
designator J?  (value not drawn)
WR-TBL Series 411B Horizontal Entry, THT, pitch 5mm, 11p; Manufacturer: Wurth Elektronik; Modularity: No; Rated Current: 10A; Working Voltage: 300V; ComponentLink1Description: Website Link; ComponentLink1URL: https://www.we-online.com/redexpert/article/691411710011B?ad; ComponentLink2Description: Datasheet Link; ComponentLink2URL: https://www.we-online.com/redexpert/spec/691411710011B?ad; Manufacturer Part Number: 691411710011B; Category: Terminal Blocks; Match Code: WR-TBL; Mount: Through Hole; Operating Temperature Max: 105°C; Operating Temperature Min: -40°C; Packaging: Box; Application: Screwless; Number of Pins: 11; Number of Rows: 1; Orientation: Horizontal; Pitch: 5mm
footprint 691411710011B
pins: 1, 2, 3, 4, 5, 6, 7, 8, 9, 10, 11

## 691411710012B
designator J?  (value not drawn)
WR-TBL Series 411B Horizontal Entry, THT, pitch 5mm, 12p; Manufacturer: Wurth Elektronik; Modularity: No; Rated Current: 10A; Working Voltage: 300V; ComponentLink1Description: Website Link; ComponentLink1URL: https://www.we-online.com/redexpert/article/691411710012B?ad; ComponentLink2Description: Datasheet Link; ComponentLink2URL: https://www.we-online.com/redexpert/spec/691411710012B?ad; Manufacturer Part Number: 691411710012B; Category: Terminal Blocks; Match Code: WR-TBL; Mount: Through Hole; Operating Temperature Max: 105°C; Operating Temperature Min: -40°C; Packaging: Box; Application: Screwless; Number of Pins: 12; Number of Rows: 1; Orientation: Horizontal; Pitch: 5mm
footprint 691411710012B
pins: 1, 2, 3, 4, 5, 6, 7, 8, 9, 10, 11, 12

## 691411710019B
designator J?  (value not drawn)
WR-TBL Series 411B Horizontal Entry, THT, pitch 5mm, 19p; Manufacturer: Wurth Elektronik; Modularity: No; Rated Current: 10A; Working Voltage: 300V; ComponentLink1Description: Website Link; ComponentLink1URL: https://www.we-online.com/redexpert/article/691411710019B?ad; ComponentLink2Description: Datasheet Link; ComponentLink2URL: https://www.we-online.com/redexpert/spec/691411710019B?ad; Manufacturer Part Number: 691411710019B; Category: Terminal Blocks; Match Code: WR-TBL; Mount: Through Hole; Operating Temperature Max: 105°C; Operating Temperature Min: -40°C; Packaging: Box; Application: Screwless; Number of Pins: 19; Number of Rows: 1; Orientation: Horizontal; Pitch: 5mm
footprint 691411710019B
pins: 1, 2, 3, 4, 5, 6, 7, 8, 9, 10, 11, 12, 13, 14, 15, 16, 17, 18, 19

## 691411710020B
designator J?  (value not drawn)
WR-TBL Series 411B Horizontal Entry, THT, pitch 5mm, 20p; Manufacturer: Wurth Elektronik; Modularity: No; Rated Current: 10A; Working Voltage: 300V; ComponentLink1Description: Website Link; ComponentLink1URL: https://www.we-online.com/redexpert/article/691411710020B?ad; ComponentLink2Description: Datasheet Link; ComponentLink2URL: https://www.we-online.com/redexpert/spec/691411710020B?ad; Manufacturer Part Number: 691411710020B; Category: Terminal Blocks; Match Code: WR-TBL; Mount: Through Hole; Operating Temperature Max: 105°C; Operating Temperature Min: -40°C; Packaging: Box; Application: Screwless; Number of Pins: 20; Number of Rows: 1; Orientation: Horizontal; Pitch: 5mm
footprint 691411710020B
pins: 1, 2, 3, 4, 5, 6, 7, 8, 9, 10, 11, 12, 13, 14, 15, 16, 17, 18, 19, 20

## 691411710021B
designator J?  (value not drawn)
WR-TBL Series 411B Horizontal Entry, THT, pitch 5mm, 21p; Manufacturer: Wurth Elektronik; Modularity: No; Rated Current: 10A; Working Voltage: 300V; ComponentLink1Description: Website Link; ComponentLink1URL: https://www.we-online.com/redexpert/article/691411710021B?ad; ComponentLink2Description: Datasheet Link; ComponentLink2URL: https://www.we-online.com/redexpert/spec/691411710021B?ad; Manufacturer Part Number: 691411710021B; Category: Terminal Blocks; Match Code: WR-TBL; Mount: Through Hole; Operating Temperature Max: 105°C; Operating Temperature Min: -40°C; Packaging: Box; Application: Screwless; Number of Pins: 21; Number of Rows: 1; Orientation: Horizontal; Pitch: 5mm
footprint 691411710021B
pins: 1, 2, 3, 4, 5, 6, 7, 8, 9, 10, 11, 12, 13, 14, 15, 16, 17, 18, 19, 20, 21

## 691411710022B
designator J?  (value not drawn)
WR-TBL Series 411B Horizontal Entry, THT, pitch 5mm, 22p; Manufacturer: Wurth Elektronik; Modularity: No; Rated Current: 10A; Working Voltage: 300V; ComponentLink1Description: Website Link; ComponentLink1URL: https://www.we-online.com/redexpert/article/691411710022B?ad; ComponentLink2Description: Datasheet Link; ComponentLink2URL: https://www.we-online.com/redexpert/spec/691411710022B?ad; Manufacturer Part Number: 691411710022B; Category: Terminal Blocks; Match Code: WR-TBL; Mount: Through Hole; Operating Temperature Max: 105°C; Operating Temperature Min: -40°C; Packaging: Box; Application: Screwless; Number of Pins: 22; Number of Rows: 1; Orientation: Horizontal; Pitch: 5mm
footprint 691411710022B
pins: 1, 2, 3, 4, 5, 6, 7, 8, 9, 10, 11, 12, 13, 14, 15, 16, 17, 18, 19, 20, 21, 22

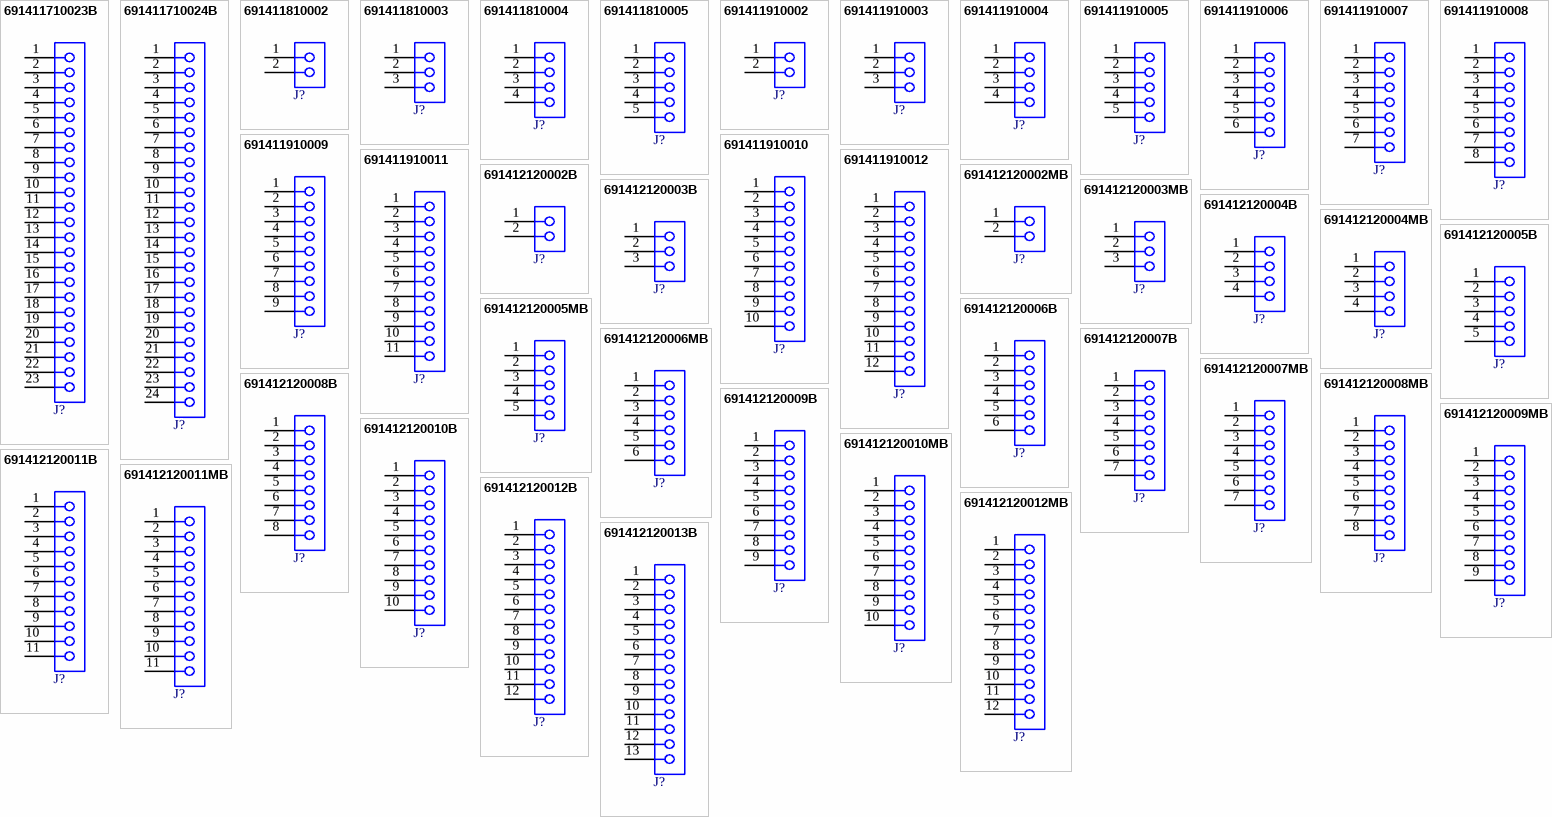
[diagram p34: symbols 691411710023B to 691412120013B]

## 691411710023B
designator J?  (value not drawn)
WR-TBL Series 411B Horizontal Entry, THT, pitch 5mm, 23p; Manufacturer: Wurth Elektronik; Modularity: No; Rated Current: 10A; Working Voltage: 300V; ComponentLink1Description: Website Link; ComponentLink1URL: https://www.we-online.com/redexpert/article/691411710023B?ad; ComponentLink2Description: Datasheet Link; ComponentLink2URL: https://www.we-online.com/redexpert/spec/691411710023B?ad; Manufacturer Part Number: 691411710023B; Category: Terminal Blocks; Match Code: WR-TBL; Mount: Through Hole; Operating Temperature Max: 105°C; Operating Temperature Min: -40°C; Packaging: Box; Application: Screwless; Number of Pins: 23; Number of Rows: 1; Orientation: Horizontal; Pitch: 5mm
footprint 691411710023B
pins: 1, 2, 3, 4, 5, 6, 7, 8, 9, 10, 11, 12, 13, 14, 15, 16, 17, 18, 19, 20, 21, 22, 23

## 691411710024B
designator J?  (value not drawn)
WR-TBL Series 411B Horizontal Entry, THT, pitch 5mm, 24p; Manufacturer: Wurth Elektronik; Modularity: No; Rated Current: 10A; Working Voltage: 300V; ComponentLink1Description: Website Link; ComponentLink1URL: https://www.we-online.com/redexpert/article/691411710024B?ad; ComponentLink2Description: Datasheet Link; ComponentLink2URL: https://www.we-online.com/redexpert/spec/691411710024B?ad; Manufacturer Part Number: 691411710024B; Category: Terminal Blocks; Match Code: WR-TBL; Mount: Through Hole; Operating Temperature Max: 105°C; Operating Temperature Min: -40°C; Packaging: Box; Application: Screwless; Number of Pins: 24; Number of Rows: 1; Orientation: Horizontal; Pitch: 5mm
footprint 691411710024B
pins: 1, 2, 3, 4, 5, 6, 7, 8, 9, 10, 11, 12, 13, 14, 15, 16, 17, 18, 19, 20, 21, 22, 23, 24

## 691411810002
designator J?  (value not drawn)
WR-TBL Series 4118 Horizontal Entry, THT, pitch 10mm, 2p; Manufacturer: Wurth Elektronik; Modularity: No; Rated Current: 10A; Working Voltage: 300V; ComponentLink1Description: Website Link; ComponentLink1URL: https://www.we-online.com/redexpert/article/691411810002?ad; ComponentLink2Description: Datasheet Link; ComponentLink2URL: https://www.we-online.com/redexpert/spec/691411810002?ad; Manufacturer Part Number: 691411810002; Category: Terminal Blocks; Match Code: WR-TBL; Mount: Through Hole; Operating Temperature Max: 120°C; Operating Temperature Min: -30°C; Packaging: Box; Application: Screwless; Number of Pins: 2; Number of Rows: 1; Orientation: Horizontal; Pitch: 10mm
footprint 691411810002
pins: 1, 2

## 691411810003
designator J?  (value not drawn)
WR-TBL Series 4118 Horizontal Entry, THT, pitch 10mm, 3p; Manufacturer: Wurth Elektronik; Modularity: No; Rated Current: 10A; Working Voltage: 300V; ComponentLink1Description: Website Link; ComponentLink1URL: https://www.we-online.com/redexpert/article/691411810003?ad; ComponentLink2Description: Datasheet Link; ComponentLink2URL: https://www.we-online.com/redexpert/spec/691411810003?ad; Manufacturer Part Number: 691411810003; Category: Terminal Blocks; Match Code: WR-TBL; Mount: Through Hole; Operating Temperature Max: 120°C; Operating Temperature Min: -30°C; Packaging: Box; Application: Screwless; Number of Pins: 3; Number of Rows: 1; Orientation: Horizontal; Pitch: 10mm
footprint 691411810003
pins: 1, 2, 3